# Altium footprint library Pannel.PcbLib: 13 footprints
Each footprint in its own frame and in the unit in brackets; x right, y up, seen from the top. Pads: shape width x height; smd on the part's side, far side on the other; paste and mask are expansions set on the pad; w line width, h text height; cw(c..) or ccw(c..) is an arc to the next point about the centre after c.
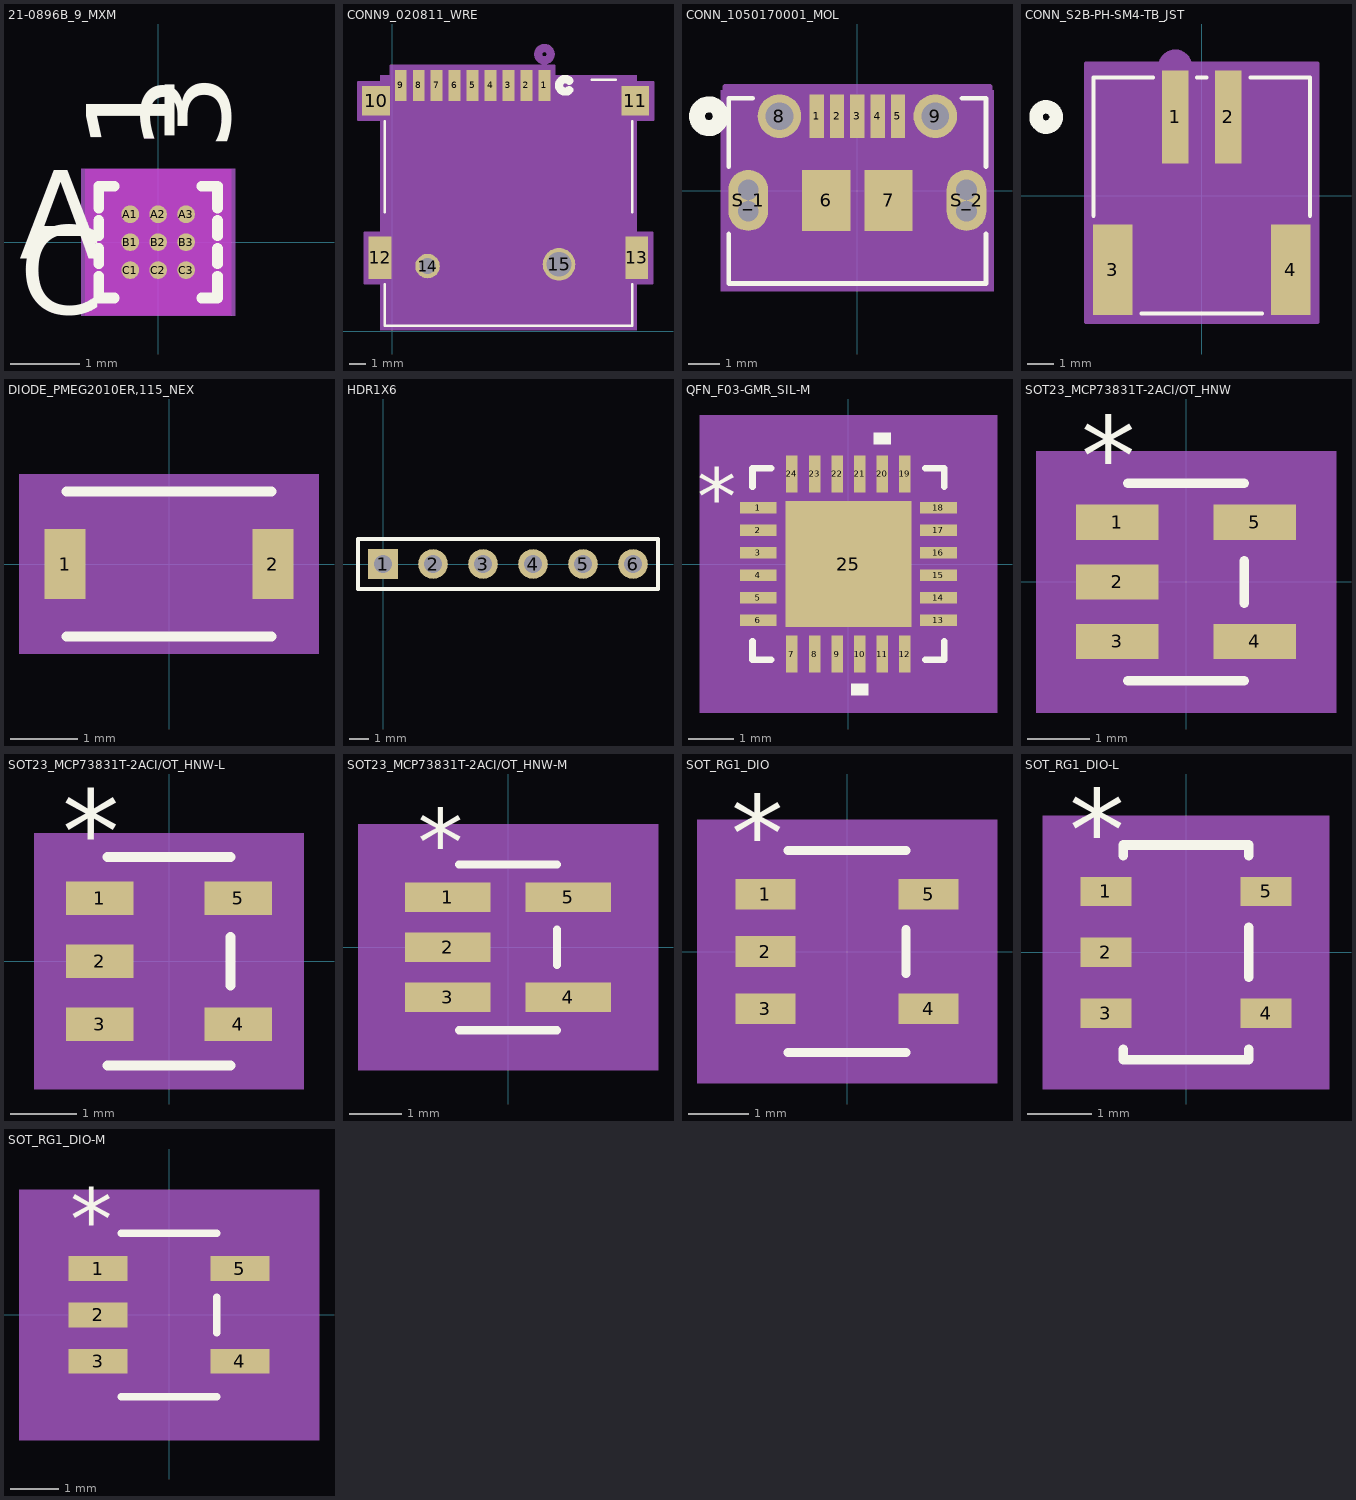
[diagram p0: the footprints below, top view; thin cyan lines are the x and y axes]

## 21-0896B_9_MXM [mil]
pads (9):
  round 10 smd paste+0 mask+0: A1(-15.75,15.75) A2(0,15.75) A3(15.75,15.75) B1(-15.75,0) B2(0,0) B3(15.75,0) C1(-15.75,-15.75) C2(0,-15.75) C3(15.75,-15.75)
Top Overlay:
  lines w6: -33.5,-19.28 -33.5,-31.5 -24.66,-31.5 ; -33.5,-12.22 -33.5,-3.53 ; -33.5,3.53 -33.5,12.22 ; -33.5,19.28 -33.5,31.5 -24.66,31.5 ; 24.66,-31.5 33.5,-31.5 33.5,-19.28 ; 24.66,31.5 33.5,31.5 33.5,19.28 ; 33.5,-12.22 33.5,-3.53 ; 33.5,3.53 33.5,12.22
  text "A" at -78.5,-9.25 h50
  text "C" at -78.5,-40.75 h50
  text "1" at 9.25,51.5 h50
  text "3" at 40.75,51.5 h50
Bottom Overlay:
  text "A" at -53.5,-9.25 h50
  text "C" at -53.5,-40.75 h50
  text "1" at -40.75,51.5 h50
  text "3" at -9.25,51.5 h50
Keep-Out Layer:
  region: -41.12,-41.12 -41.12,41.12 41.12,41.12 41.12,-41.12
Mechanical 5:
  region: 43.5,-41.5 -43.5,-41.5 -43.5,41.5 43.5,41.5
Mechanical 13:
  lines w1: -28.5,18.63 -20.63,26.5 ; -28.5,-26.5 28.5,-26.5 28.5,26.5 -28.5,26.5 -28.5,-26.5
  text "A" at -78.5,-9.25 h50
  text "C" at -78.5,-40.75 h50
  text "1" at 9.25,51.5 h50
  text "3" at 40.75,51.5 h50
Mechanical 15:
  region: 38.5,-36.5 -38.5,-36.5 -38.5,36.5 38.5,36.5
  lines w6: -38.5,-36.5 -38.5,36.5 38.5,36.5 38.5,-36.5 -38.5,-36.5
3D body "21-0896B_9_MXM.step": height 27.28, standoff -0.02, extent -28.5,-26.5 28.5,26.5

## CONN9_020811_WRE [mil]
pads (15):
  rect 28x75 smd paste+0 mask+0: 1(366.54,592.56) 2(323.23,592.56) 3(279.92,592.56) 4(236.61,592.56) 5(193.31,592.56) 6(150,592.56) 7(106.69,592.56) 8(63.39,592.56) 9(20.08,592.56)
  rect 67x71 smd: 10(-38.98,555.08) 11(585.04,555.08)
  rect 55x102 smd: 12(-29.13,177.13) 13(588.98,177.13)
  round 59 hole 39: 14(85.04,157.44)
  round 78.74 hole 59.06: 15(401.57,161.42)
Top Overlay:
  lines w6: -18.58,113.03 -18.58,13.3 578.42,13.3 578.42,113.03 ; -18.58,287.45 -18.58,506.48 ; 480.25,606.3 538.44,606.3 ; 578.42,287.45 578.42,506.48
  lines w20: 426.32,581.19 cw(c416.54,592.56) 426.32,603.93
Bottom Overlay:
  circle w20: c416.54,592.56 r15
Mechanical 5:
  region: -28.58,616.3 588.42,616.3 588.42,3.3 -28.58,3.3
Mechanical 13:
  circle w20: c366.54,667.56 r15
  lines w1: -13.58,18.3 -13.58,601.3 573.42,601.3 573.42,18.3 -13.58,18.3
Mechanical 15:
  region: 583.42,238.13 583.42,509.58 628.54,509.58 628.54,600.58 583.42,600.58 583.42,611.3 390.54,611.3 390.54,640.06 -3.92,640.06 -3.92,611.3 -23.58,611.3 -23.58,600.58 -82.48,600.58 -82.48,509.58 -23.58,509.58 -23.58,238.13 -66.63,238.13 -66.63,116.13 -23.58,116.13 -23.58,8.3 583.42,8.3 583.42,116.13 626.48,116.13 626.48,238.13
  lines w6: -82.48,509.58 -23.58,509.58 -23.58,238.13 -66.63,238.13 -66.63,116.13 -23.58,116.13 -23.58,8.3 583.42,8.3 583.42,116.13 626.48,116.13 626.48,238.13 583.42,238.13 583.42,509.58 628.54,509.58 628.54,600.58 583.42,600.58 583.42,611.3 390.54,611.3 390.54,640.06 -3.92,640.06 -3.92,611.3 -23.58,611.3 -23.58,600.58 -82.48,600.58 -82.48,509.58
3D body: height 10, standoff 0, extent 366.54,592.56 376.54,602.56

## CONN_1050170001_MOL [mil]
pads (15):
  rect 18x55 smd paste+0 mask+0: 1(-51.18,94.28) 2(-25.59,94.28) 3(0,94.28) 4(25.59,94.28) 5(51.18,94.28)
  rect 61x77 smd: 6(-39.37,-12.02) 7(39.37,-12.02)
  round 55 hole 35 mask+0: 8(-98.43,94.28) 9(98.43,94.28)
  oval 50x77 hole 1 mask+0: S_1(-137.8,-12.02) S_2(137.8,-12.02)
  round 26 hole 26 unplated: S_1_H1(-137.8,1.48) S_1_H2(-137.8,-25.52) S_2_H1(137.8,1.48) S_2_H2(137.8,-25.52)
Top Overlay:
  circle w20: c-187.5,94.28 r15
  lines w6: -162.5,-54.52 -162.5,-117 162.5,-117 162.5,-54.52 ; -162.5,30.49 -162.5,117 -132.08,117 ; 132.08,117 162.5,117 162.5,30.49
Bottom Overlay:
  circle w20: c-187.5,94.28 r15
Mechanical 5:
  region: -172.5,127 172.5,127 172.5,-127 -172.5,-127
Mechanical 13:
  circle w20: c-51.18,19.28 r15
  lines w1: -157.5,-112 -157.5,112 157.5,112 157.5,-112 -157.5,-112
Mechanical 15:
  region: 167.5,131.78 -167.5,131.78 -167.5,-122 167.5,-122
  lines w6: -167.5,-122 167.5,-122 167.5,131.78 -167.5,131.78 -167.5,-122
Multi-Layer:
  lines w26: -137.8,-25.52 -137.8,1.48 ; 137.8,-25.52 137.8,1.48
3D body: height 10, standoff 0, extent 0,0 10,10

## CONN_S2B-PH-SM4-TB_JST [mil]
pads (4):
  rect 39x138 smd paste+0 mask+0: 1(-39.37,116.35) 2(39.37,116.35)
  rect 59x134 smd: 3(-131.89,-110.03) 4(131.89,-110.03)
Top Overlay:
  circle w20: c-230.5,116.35 r15
  lines w6: -160.5,-29.93 -160.5,174.5 -71.97,174.5 ; -89.29,-174.5 89.29,-174.5 ; -6.77,174.5 6.77,174.5 ; 71.97,174.5 160.5,174.5 160.5,-29.93
Bottom Overlay:
  circle w20: c-230.5,116.35 r15
Mechanical 5:
  region: -170.5,184.5 170.5,184.5 170.5,-184.5 -170.5,-184.5
Mechanical 13:
  circle w20: c-39.37,191.35 r15
  lines w1: -155.5,-169.5 -155.5,169.5 155.5,169.5 155.5,-169.5 -155.5,-169.5
Mechanical 15:
  region: 171.39,195.35 -171.39,195.35 -171.39,-187.03 171.39,-187.03
  lines w6: -171.39,-187.03 171.39,-187.03 171.39,195.35 -171.39,195.35 -171.39,-187.03
3D body: height 10, standoff 0, extent 0,0 10,10

## DIODE_PMEG2010ER,115_NEX [mil]
pads (2):
  rect 24x41 smd paste+0 mask+0: 1(-60.83,0) 2(60.83,0)
Top Overlay:
  lines w6: -60,-42.5 60,-42.5 ; -60,42.5 60,42.5
Mechanical 5:
  region: 87.83,-52.5 -87.83,-52.5 -87.83,52.5 87.83,52.5
Mechanical 13:
  lines w1: -55,-37.5 55,-37.5 55,37.5 -55,37.5 -55,-37.5
Mechanical 15:
  region: -65,-30.5 -82.83,-30.5 -82.83,30.5 -65,30.5 -65,47.5 65,47.5 65,30.5 82.83,30.5 82.83,-30.5 65,-30.5 65,-47.5 -65,-47.5
  lines w6: -82.83,-30.5 -82.83,30.5 -65,30.5 -65,47.5 65,47.5 65,30.5 82.83,30.5 82.83,-30.5 65,-30.5 65,-47.5 -65,-47.5 -65,-30.5 -82.83,-30.5
3D body: height 10, standoff 0, extent 0,0 10,10

## HDR1X6 [mm] "Connector; Header; 6 Position"
pads (6):
  rect 1.5x1.5 hole 0.9: 1(0,0)
  round 1.5 hole 0.9: 2(2.54,0) 3(5.08,0) 4(7.62,0) 5(10.16,0) 6(12.7,0)
Top Overlay:
  lines w0.2: -1.27,-1.27 -1.27,1.27 13.97,1.27 13.97,-1.27 -1.27,-1.27

## QFN_F03-GMR_SIL-M [mil]
pads (25):
  rect 32x10 smd paste+0 mask+0: 1(-78.5,49.23) 2(-78.5,29.54) 3(-78.5,9.85) 4(-78.5,-9.85) 5(-78.5,-29.54) 6(-78.5,-49.23) 13(78.5,-49.23) 14(78.5,-29.54) 15(78.5,-9.85) 16(78.5,9.85) 17(78.5,29.54) 18(78.5,49.23)
  rect 10x32 smd paste+0 mask+0: 7(-49.23,-78.5) 8(-29.54,-78.5) 9(-9.85,-78.5) 10(9.85,-78.5) 11(29.54,-78.5) 12(49.23,-78.5) 19(49.23,78.5) 20(29.54,78.5) 21(9.85,78.5) 22(-9.85,78.5) 23(-29.54,78.5) 24(-49.23,78.5)
  rect 110x110 smd paste-54.5 mask+0: 25(0,0)
Top Overlay:
  region: 17.34,-104.5 2.35,-104.5 2.35,-114.5 17.34,-114.5
  region: 37.03,104.5 22.04,104.5 22.04,114.5 37.03,114.5
  lines w6: -83.5,-67.33 -83.5,-83.5 -67.33,-83.5 ; -83.5,67.33 -83.5,83.5 -67.33,83.5 ; 67.33,-83.5 83.5,-83.5 83.5,-67.33 ; 67.33,83.5 83.5,83.5 83.5,67.33
  text "*" at -132,34.07 h50
Top Paste:
  region: -3.94,51.06 -51.06,51.06 -51.06,3.94 -3.94,3.94
  region: -3.94,-3.94 -51.06,-3.94 -51.06,-51.06 -3.94,-51.06
  region: 51.06,51.06 3.94,51.06 3.94,3.94 51.06,3.94
  region: 51.06,-3.94 3.94,-3.94 3.94,-51.06 51.06,-51.06
Mechanical 5:
  region: 129.5,-129.5 -129.5,-129.5 -129.5,129.5 129.5,129.5
Mechanical 13:
  lines w1: -78.5,28.5 -28.5,78.5 ; -78.5,-78.5 78.5,-78.5 78.5,78.5 -78.5,78.5 -78.5,-78.5 ; -78.5,-55.23 -78.5,-43.23 -78.5,-55.23 ; -78.5,-35.53 -78.5,-23.54 -78.5,-35.53 ; -78.5,-15.85 -78.5,-3.85 -78.5,-15.85 ; -78.5,3.85 -78.5,15.85 -78.5,3.85 ; -78.5,23.54 -78.5,35.53 -78.5,23.54 ; -78.5,43.23 -78.5,55.23 -78.5,43.23 ; -55.23,-78.5 -43.23,-78.5 -55.23,-78.5 ; -55.23,78.5 -43.23,78.5 -55.23,78.5 ; -35.53,-78.5 -23.54,-78.5 -35.53,-78.5 ; -35.53,78.5 -23.54,78.5 -35.53,78.5 ; -15.85,-78.5 -3.85,-78.5 -15.85,-78.5 ; -15.85,78.5 -3.85,78.5 -15.85,78.5 ; 3.85,-78.5 15.85,-78.5 3.85,-78.5 ; 3.85,78.5 15.85,78.5 3.85,78.5 ; 23.54,-78.5 35.53,-78.5 23.54,-78.5 ; 23.54,78.5 35.53,78.5 23.54,78.5 ; 43.23,-78.5 55.23,-78.5 43.23,-78.5 ; 43.23,78.5 55.23,78.5 43.23,78.5 ; 78.5,-55.23 78.5,-43.23 78.5,-55.23 ; 78.5,-35.53 78.5,-23.54 78.5,-35.53 ; 78.5,-15.85 78.5,-3.85 78.5,-15.85 ; 78.5,3.85 78.5,15.85 78.5,3.85 ; 78.5,23.54 78.5,35.53 78.5,23.54 ; 78.5,43.23 78.5,55.23 78.5,43.23
  text "*" at -75,34.07 h50
Mechanical 15:
  region: -74.22,-98.5 -98.5,-98.5 -98.5,-74.22 -114.5,-74.22 -114.5,74.22 -98.5,74.22 -98.5,98.5 -74.22,98.5 -74.22,114.5 74.22,114.5 74.22,98.5 98.5,98.5 98.5,74.22 114.5,74.22 114.5,-74.22 98.5,-74.22 98.5,-98.5 74.22,-98.5 74.22,-114.5 -74.22,-114.5
  lines w6: -114.5,-74.22 -98.5,-74.22 -98.5,-98.5 -74.22,-98.5 -74.22,-114.5 74.22,-114.5 74.22,-98.5 98.5,-98.5 98.5,-74.22 114.5,-74.22 114.5,74.22 98.5,74.22 98.5,98.5 74.22,98.5 74.22,114.5 -74.22,114.5 -74.22,98.5 -98.5,98.5 -98.5,74.22 -114.5,74.22 -114.5,-74.22
3D body "QFN_F03-GMR_SIL.step": height 32.09, standoff 0, extent -78.5,-78.5 78.5,78.5

## SOT23_MCP73831T-2ACI/OT_HNW [mil]
pads (5):
  rect 52x22 smd paste+0 mask+0: 1(-43.12,37.4) 2(-43.12,0) 3(-43.12,-37.4) 4(43.12,-37.4) 5(43.12,37.4)
Top Overlay:
  lines w6: -36.5,-62 36.5,-62 ; -36.5,62 36.5,62 ; 36.5,-13.3 36.5,13.3
  text "*" at -65.62,54.4 h50
Mechanical 5:
  region: 94.12,-82 -94.12,-82 -94.12,82 94.12,82
Mechanical 13:
  lines w0: -12,57 ccw(c0,57) 12,57
  lines w1: -55.12,-47.4 -55.12,-27.4 -31.5,-27.4 -31.5,-47.4 -55.12,-47.4 ; -55.12,-10 -55.12,10 -31.5,10 -31.5,-10 -55.12,-10 ; -55.12,27.4 -55.12,47.4 -31.5,47.4 -31.5,27.4 -55.12,27.4 ; -31.5,-57 31.5,-57 31.5,57 -31.5,57 -31.5,-57 ; 31.5,-47.4 31.5,-27.4 55.12,-27.4 55.12,-47.4 31.5,-47.4 ; 31.5,27.4 31.5,47.4 55.12,47.4 55.12,27.4 31.5,27.4
  text "*" at -29,4 h50
Mechanical 15:
  region: -41.5,-58.4 -79.12,-58.4 -79.12,58.4 -41.5,58.4 -41.5,67 41.5,67 41.5,58.4 79.12,58.4 79.12,-58.4 41.5,-58.4 41.5,-67 -41.5,-67
  lines w6: -79.12,-58.4 -79.12,58.4 -41.5,58.4 -41.5,67 41.5,67 41.5,58.4 79.12,58.4 79.12,-58.4 41.5,-58.4 41.5,-67 -41.5,-67 -41.5,-58.4 -79.12,-58.4
3D body: height 10, standoff 0, extent 0,0 10,10

## SOT23_MCP73831T-2ACI/OT_HNW-L [mil]
pads (5):
  rect 40x20 smd paste+0 mask+0: 1(-41.12,37.4) 2(-41.12,0) 3(-41.12,-37.4) 4(41.12,-37.4) 5(41.12,37.4)
Top Overlay:
  lines w6: -36.5,-62 36.5,-62 ; -36.5,62 36.5,62 ; 36.5,-14.3 36.5,14.3
  text "*" at -63.62,52.4 h50
Mechanical 5:
  region: 80.12,-76 -80.12,-76 -80.12,76 80.12,76
Mechanical 13:
  lines w0: -12,57 ccw(c0,57) 12,57
  lines w1: -55.12,-47.4 -31.5,-47.4 -31.5,-27.4 -55.12,-27.4 -55.12,-47.4 ; -55.12,-10 -31.5,-10 -31.5,10 -55.12,10 -55.12,-10 ; -55.12,27.4 -31.5,27.4 -31.5,47.4 -55.12,47.4 -55.12,27.4 ; -31.5,-57 -31.5,57 31.5,57 31.5,-57 -31.5,-57 ; 31.5,-47.4 55.12,-47.4 55.12,-27.4 31.5,-27.4 31.5,-47.4 ; 31.5,27.4 55.12,27.4 55.12,47.4 31.5,47.4 31.5,27.4
  text "*" at -29,4 h50
Mechanical 15:
  region: -35.5,-51.4 -65.12,-51.4 -65.12,51.4 -35.5,51.4 -35.5,61 35.5,61 35.5,51.4 65.12,51.4 65.12,-51.4 35.5,-51.4 35.5,-61 -35.5,-61
  lines w6: -65.12,-51.4 -35.5,-51.4 -35.5,-61 35.5,-61 35.5,-51.4 65.12,-51.4 65.12,51.4 35.5,51.4 35.5,61 -35.5,61 -35.5,51.4 -65.12,51.4 -65.12,-51.4
3D body: height 10, standoff 0, extent 0,0 10,10

## SOT23_MCP73831T-2ACI/OT_HNW-M [mil]
pads (5):
  rect 64x22 smd paste+0 mask+0: 1(-45.12,37.4) 2(-45.12,0) 3(-45.12,-37.4) 4(45.12,-37.4) 5(45.12,37.4)
Top Overlay:
  lines w6: -36.5,-62 36.5,-62 ; -36.5,62 36.5,62 ; 36.5,-13.3 36.5,13.3
  text "*" at -67.62,54.4 h50
Mechanical 5:
  region: 112.12,-92 -112.12,-92 -112.12,92 112.12,92
Mechanical 13:
  lines w0: -12,57 ccw(c0,57) 12,57
  lines w1: -55.12,-47.4 -31.5,-47.4 -31.5,-27.4 -55.12,-27.4 -55.12,-47.4 ; -55.12,-10 -31.5,-10 -31.5,10 -55.12,10 -55.12,-10 ; -55.12,27.4 -31.5,27.4 -31.5,47.4 -55.12,47.4 -55.12,27.4 ; -31.5,-57 -31.5,57 31.5,57 31.5,-57 -31.5,-57 ; 31.5,-47.4 55.12,-47.4 55.12,-27.4 31.5,-27.4 31.5,-47.4 ; 31.5,27.4 55.12,27.4 55.12,47.4 31.5,47.4 31.5,27.4
  text "*" at -29,4 h50
Mechanical 15:
  region: -51.5,-68.4 -97.12,-68.4 -97.12,68.4 -51.5,68.4 -51.5,77 51.5,77 51.5,68.4 97.12,68.4 97.12,-68.4 51.5,-68.4 51.5,-77 -51.5,-77
  lines w6: -97.12,-68.4 -51.5,-68.4 -51.5,-77 51.5,-77 51.5,-68.4 97.12,-68.4 97.12,68.4 51.5,68.4 51.5,77 -51.5,77 -51.5,68.4 -97.12,68.4 -97.12,-68.4
3D body: height 10, standoff 0, extent 0,0 10,10

## SOT_RG1_DIO [mil]
pads (5):
  rect 39.5x20 smd paste+0 mask+0: 1(-53.25,37.4) 2(-53.25,0) 3(-53.25,-37.4) 4(53.25,-37.4) 5(53.25,37.4)
Top Overlay:
  lines w6: -38.5,-66 38.5,-66 ; -38.5,66 38.5,66 ; 38.5,-14.3 38.5,14.3
  text "*" at -75.75,52.4 h50
Mechanical 5:
  region: 98,-86 -98,-86 -98,86 98,86
Mechanical 13:
  lines w0: -12,61 ccw(c0,61) 12,61
  lines w1: -59,-47.4 -33.5,-47.4 -33.5,-27.4 -59,-27.4 -59,-47.4 ; -59,-10 -33.5,-10 -33.5,10 -59,10 -59,-10 ; -59,27.4 -33.5,27.4 -33.5,47.4 -59,47.4 -59,27.4 ; -33.5,-61 -33.5,61 33.5,61 33.5,-61 -33.5,-61 ; 33.5,-47.4 59,-47.4 59,-27.4 33.5,-27.4 33.5,-47.4 ; 33.5,27.4 59,27.4 59,47.4 33.5,47.4 33.5,27.4
  text "*" at -36,9.4 h50
Mechanical 15:
  region: 43.5,-71 -43.5,-71 -43.5,-52.4 -79,-52.4 -79,52.4 -43.5,52.4 -43.5,71 43.5,71 43.5,52.4 79,52.4 79,-52.4 43.5,-52.4
  lines w6: -79,-52.4 -79,52.4 -43.5,52.4 -43.5,71 43.5,71 43.5,52.4 79,52.4 79,-52.4 43.5,-52.4 43.5,-71 -43.5,-71 -43.5,-52.4 -79,-52.4
3D body "SOT_RG1_DIO.step": height 51.1, standoff 0, extent -59.02,-60.98 59.02,60.98

## SOT_RG1_DIO-L [mil]
pads (5):
  rect 31.5x18 smd paste+0 mask+0: 1(-49.25,37.4) 2(-49.25,0) 3(-49.25,-37.4) 4(49.25,-37.4) 5(49.25,37.4)
Top Overlay:
  lines w6: -38.5,-59.5 -38.5,-66 38.5,-66 38.5,-59.5 ; -38.5,59.5 -38.5,66 38.5,66 38.5,59.5 ; 38.5,-15.3 38.5,15.3
  text "*" at -71.75,50.4 h50
Mechanical 5:
  region: 88,-84 -88,-84 -88,84 88,84
Mechanical 13:
  lines w0: -12,61 ccw(c0,61) 12,61
  lines w1: -59,-47.4 -33.5,-47.4 -33.5,-27.4 -59,-27.4 -59,-47.4 ; -59,-10 -33.5,-10 -33.5,10 -59,10 -59,-10 ; -59,27.4 -33.5,27.4 -33.5,47.4 -59,47.4 -59,27.4 ; -33.5,-61 -33.5,61 33.5,61 33.5,-61 -33.5,-61 ; 33.5,-47.4 59,-47.4 59,-27.4 33.5,-27.4 33.5,-47.4 ; 33.5,27.4 59,27.4 59,47.4 33.5,47.4 33.5,27.4
  text "*" at -36,7.4 h50
Mechanical 15:
  region: 41.5,-69 -41.5,-69 -41.5,-55.4 -76,-55.4 -76,55.4 -41.5,55.4 -41.5,69 41.5,69 41.5,55.4 76,55.4 76,-55.4 41.5,-55.4
  lines w6: -76,-55.4 -76,55.4 -41.5,55.4 -41.5,69 41.5,69 41.5,55.4 76,55.4 76,-55.4 41.5,-55.4 41.5,-69 -41.5,-69 -41.5,-55.4 -76,-55.4
3D body "SOT_RG1_DIO.step": height 51.1, standoff 0, extent -59.02,-60.98 59.02,60.98

## SOT_RG1_DIO-M [mil]
pads (5):
  rect 47.5x20 smd paste+0 mask+0: 1(-57.25,37.4) 2(-57.25,0) 3(-57.25,-37.4) 4(57.25,-37.4) 5(57.25,37.4)
Top Overlay:
  lines w6: -38.5,-66 38.5,-66 ; -38.5,66 38.5,66 ; 38.5,-14.3 38.5,14.3
  text "*" at -79.75,52.4 h50
Mechanical 5:
  region: 121,-101 -121,-101 -121,101 121,101
Mechanical 13:
  lines w0: -12,61 ccw(c0,61) 12,61
  lines w1: -59,-47.4 -33.5,-47.4 -33.5,-27.4 -59,-27.4 -59,-47.4 ; -59,-10 -33.5,-10 -33.5,10 -59,10 -59,-10 ; -59,27.4 -33.5,27.4 -33.5,47.4 -59,47.4 -59,27.4 ; -33.5,-61 -33.5,61 33.5,61 33.5,-61 -33.5,-61 ; 33.5,-47.4 59,-47.4 59,-27.4 33.5,-27.4 33.5,-47.4 ; 33.5,27.4 59,27.4 59,47.4 33.5,47.4 33.5,27.4
  text "*" at -36,9.4 h50
Mechanical 15:
  region: 58.5,-86 -58.5,-86 -58.5,-57.4 -94,-57.4 -94,57.4 -58.5,57.4 -58.5,86 58.5,86 58.5,57.4 94,57.4 94,-57.4 58.5,-57.4
  lines w6: -94,-57.4 -94,57.4 -58.5,57.4 -58.5,86 58.5,86 58.5,57.4 94,57.4 94,-57.4 58.5,-57.4 58.5,-86 -58.5,-86 -58.5,-57.4 -94,-57.4
3D body "SOT_RG1_DIO.step": height 51.1, standoff 0, extent -59.02,-60.98 59.02,60.98